# Altium footprint library 47346-0001.PcbLib: 1 footprints
Each footprint in its own frame and in the unit in brackets; x right, y up, seen from the top. Pads: shape width x height; smd on the part's side, far side on the other; paste and mask are expansions set on the pad; w line width, h text height; cw(c..) or ccw(c..) is an arc to the next point about the centre after c.
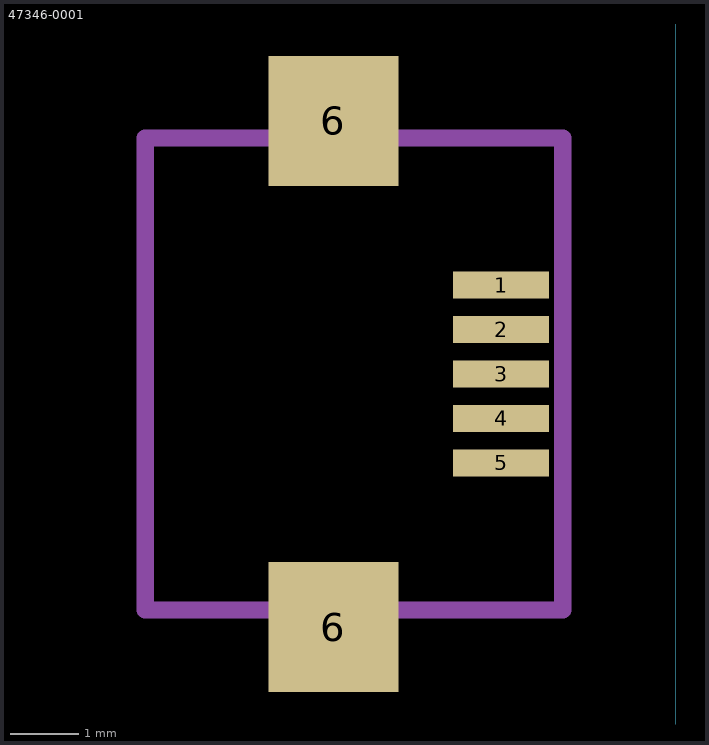
[diagram p0: the footprint, top view; thin cyan lines are the x and y axes]

## 47346-0001 [mm]
pads (7):
  rect 1.4x0.4 smd: 1(-2.55,12.6) 2(-2.55,11.95) 3(-2.55,11.3) 4(-2.55,10.65) 5(-2.55,10)
  rect 1.9x1.9 smd: 6(-5,7.6) 6(-5,15)
TopAssy:
  lines w0.25: -7.75,7.85 -7.75,14.75 -1.65,14.75 -1.65,7.85 -7.75,7.85
3D body "User Library-Micro USB.STEP": height 2.72, standoff -0.22, extent -7.58,7.31 -2.15,15.29